# Altium footprint library JST_S4B-ZR-SM4A-TF(LF)(SN).PcbLib: 1 footprints
Each footprint in its own frame and in the unit in brackets; x right, y up, seen from the top. Pads: shape width x height; smd on the part's side, far side on the other; paste and mask are expansions set on the pad; w line width, h text height; cw(c..) or ccw(c..) is an arc to the next point about the centre after c.
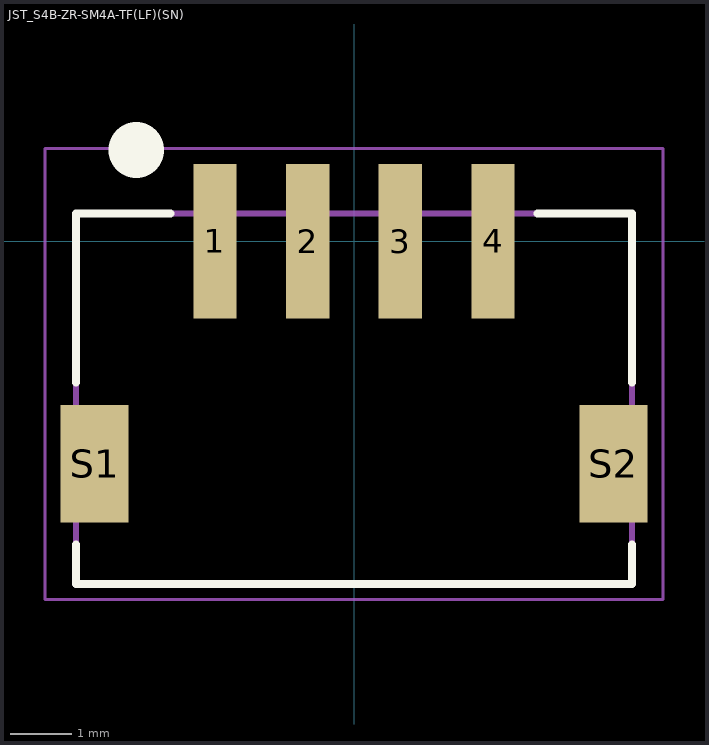
[diagram p0: the footprint, top view; thin cyan lines are the x and y axes]

## JST_S4B-ZR-SM4A-TF(LF)(SN) [mm]
pads (6):
  rect 0.7x2.5 smd: 1(-2.25,0) 2(-0.75,0) 3(0.75,0) 4(2.25,0)
  rect 1.1x1.9 smd: S1(-4.2,-3.6) S2(4.2,-3.6)
Top Overlay:
  circle w0.9: c-3.525,1.475 r0.001
  lines w0.127: -4.5,-4.91 -4.5,-5.55 4.5,-5.55 4.5,-4.91 ; -4.5,-2.29 -4.5,0.45 -2.97,0.45 ; 2.97,0.45 4.5,0.45 4.5,-2.29
Mechanical 13:
  lines w0.1: -4.5,-5.55 4.5,-5.55 4.5,0.45 -4.5,0.45 -4.5,-5.55
Mechanical 15:
  lines w0.05: -5,-5.8 5,-5.8 5,1.5 -5,1.5 -5,-5.8
3D body "S4B-ZR-SM4A-TF.STEP": height 3.7, standoff 0, extent -4.5,-5.55 4.5,0.95